# Altium footprint library MAL219691253E3.PcbLib: 3 footprints
Each footprint in its own frame and in the unit in brackets; x right, y up, seen from the top. Pads: shape width x height; smd on the part's side, far side on the other; paste and mask are expansions set on the pad; w line width, h text height; cw(c..) or ccw(c..) is an arc to the next point about the centre after c.
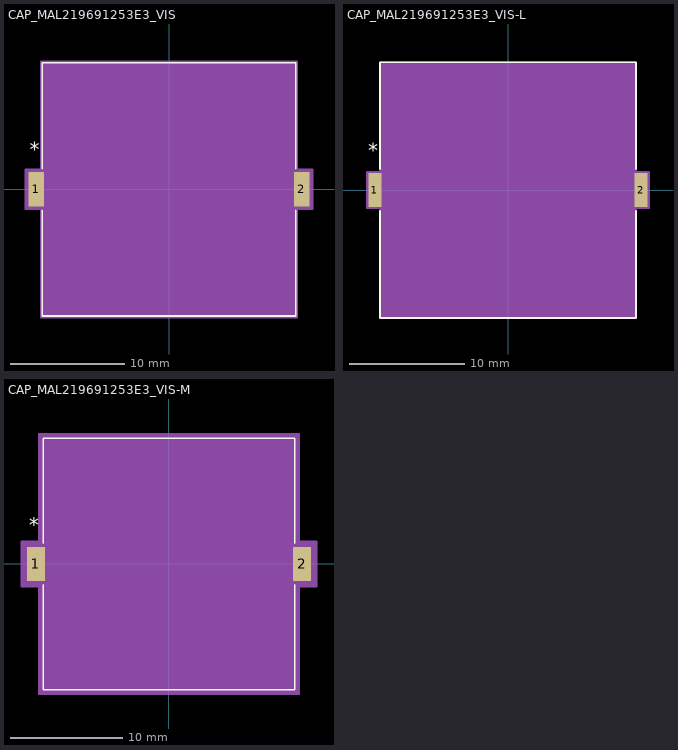
[diagram p0: the footprints below, top view; thin cyan lines are the x and y axes]

## CAP_MAL219691253E3_VIS [mil]
pads (2):
  rect 53.5x118 smd paste+0 mask+0: 1(-459.75,0) 2(459.75,0)
Top Overlay:
  lines w6: -438,-72.1 -438,-438 438,-438 438,-72.1 ; -438,72.1 -438,438 438,438 438,72.1
  text "*" at -482.25,113 h50
Mechanical 13:
  lines w0: -12,433 ccw(c0,433) 12,433
  lines w1: -472.5,-59 -472.5,59 -433,59 -433,-59 -472.5,-59 ; -433,-433 433,-433 433,433 -433,433 -433,-433 ; 433,-59 433,59 472.5,59 472.5,-59 433,-59
  text "*" at -430.5,380 h50
Mechanical 15:
  region: -443,-69 -496.5,-69 -496.5,69 -443,69 -443,443 443,443 443,69 496.5,69 496.5,-69 443,-69 443,-443 -443,-443
  lines w6: -496.5,-69 -496.5,69 -443,69 -443,443 443,443 443,69 496.5,69 496.5,-69 443,-69 443,-443 -443,-443 -443,-69 -496.5,-69
3D body "CAP_MAL219691253E3_VIS.step": height 150.12, standoff 0, extent -472.52,-432.99 472.52,432.99

## CAP_MAL219691253E3_VIS-L [mil]
pads (2):
  rect 45.5x116 smd paste+0 mask+0: 1(-455.75,0) 2(455.75,0)
Top Overlay:
  lines w6: -438,-71.1 -438,-438 438,-438 438,-71.1 ; -438,71.1 -438,438 438,438 438,71.1
  text "*" at -478.25,111 h50
Mechanical 13:
  lines w0: -12,433 ccw(c0,433) 12,433
  lines w1: -472.5,-59 -472.5,59 -433,59 -433,-59 -472.5,-59 ; -433,-433 433,-433 433,433 -433,433 -433,-433 ; 433,-59 433,59 472.5,59 472.5,-59 433,-59
  text "*" at -430.5,380 h50
Mechanical 15:
  region: -437,-62 -482.5,-62 -482.5,62 -437,62 -437,437 437,437 437,62 482.5,62 482.5,-62 437,-62 437,-437 -437,-437
  lines w6: -482.5,-62 -482.5,62 -437,62 -437,437 437,437 437,62 482.5,62 482.5,-62 437,-62 437,-437 -437,-437 -437,-62 -482.5,-62
3D body "CAP_MAL219691253E3_VIS.step": height 150.12, standoff 0, extent -472.52,-432.99 472.52,432.99

## CAP_MAL219691253E3_VIS-M [mil]
pads (2):
  rect 61.5x118 smd paste+0 mask+0: 1(-463.75,0) 2(463.75,0)
Top Overlay:
  lines w6: -438,-72.1 -438,-438 438,-438 438,-72.1 ; -438,72.1 -438,438 438,438 438,72.1
  text "*" at -486.25,113 h50
Mechanical 13:
  lines w0: -12,433 ccw(c0,433) 12,433
  lines w1: -472.5,-59 -472.5,59 -433,59 -433,-59 -472.5,-59 ; -433,-433 433,-433 433,433 -433,433 -433,-433 ; 433,-59 433,59 472.5,59 472.5,-59 433,-59
  text "*" at -430.5,380 h50
Mechanical 15:
  region: -453,-79 -514.5,-79 -514.5,79 -453,79 -453,453 453,453 453,79 514.5,79 514.5,-79 453,-79 453,-453 -453,-453
  lines w6: -514.5,-79 -514.5,79 -453,79 -453,453 453,453 453,79 514.5,79 514.5,-79 453,-79 453,-453 -453,-453 -453,-79 -514.5,-79
3D body "CAP_MAL219691253E3_VIS.step": height 150.12, standoff 0, extent -472.52,-432.99 472.52,432.99